# Altium footprint library Header.PcbLib: 45 footprints (part 2 of 3)
Each footprint in its own frame and in the unit in brackets; x right, y up, seen from the top. Pads: shape width x height; smd on the part's side, far side on the other; paste and mask are expansions set on the pad; w line width, h text height; cw(c..) or ccw(c..) is an arc to the next point about the centre after c.
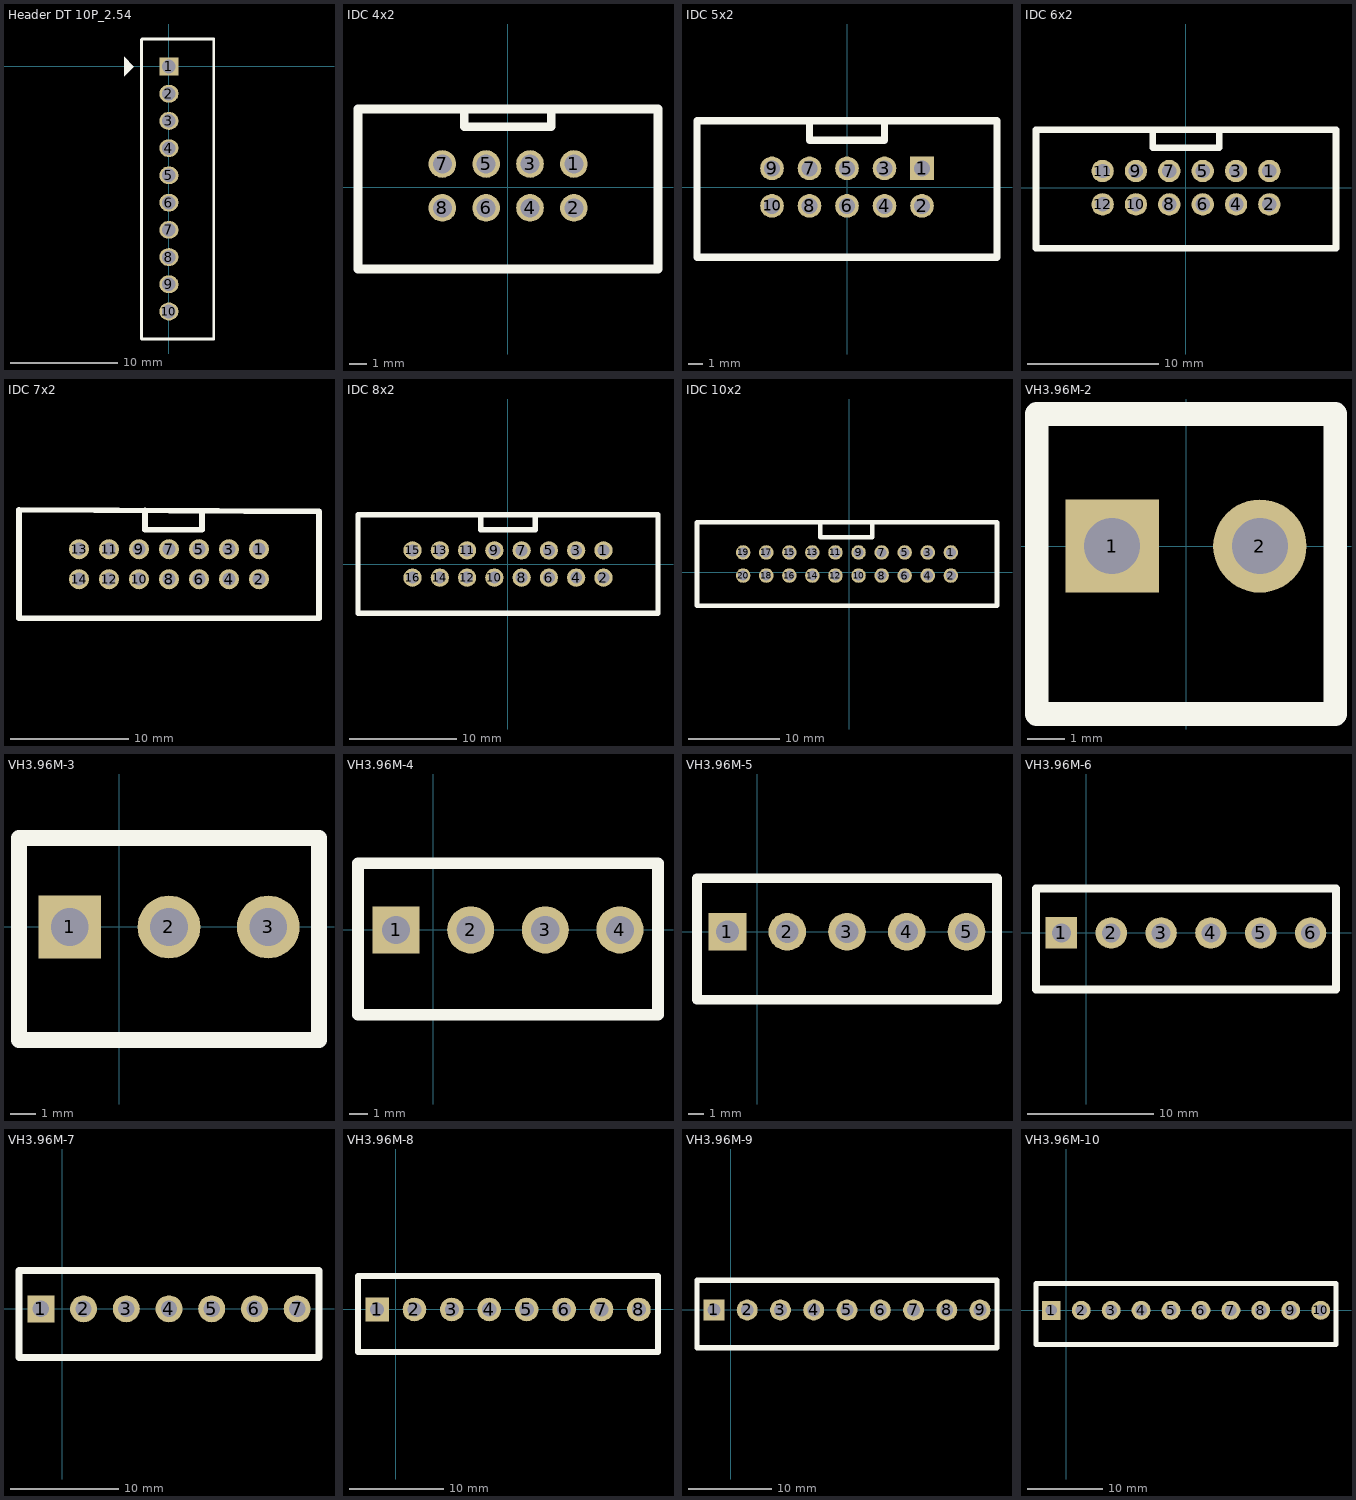
[diagram p1: the footprints below, top view; thin cyan lines are the x and y axes]

## Header DT 10P_2.54 [mil]
pads (10):
  rect 70x65 hole 50: 1(0,0)
  oval 70x65 hole 50: 2(0,-100) 3(0,-200) 4(0,-300) 5(0,-400) 6(0,-500) 7(0,-600) 8(0,-700) 9(0,-800) 10(0,-900)
Top Overlay:
  region: -164.5,35.5 -164.5,-35.5 -129.5,-0.5 -128.5,-0.5
  lines w10: -101,-1001 -101,99 -99,101 165,101 165,-1001 -101,-1001
3D body "31550.stp": height 550, standoff -115, extent -98,-1000 162,100

## IDC 4x2 [mm]
pads (8):
  round 1.6 hole 1.1: 1(3.84,1.34) 2(3.84,-1.2) 3(1.3,1.34) 4(1.3,-1.2) 5(-1.24,1.34) 6(-1.24,-1.2) 7(-3.78,1.34) 8(-3.78,-1.2)
Top Overlay:
  lines w0.5: -2.5,4.5 -2.5,3.5 2.53,3.5 2.53,4.5 2.6,4.5 ; -8.66,-4.745 -8.66,4.525 8.71,4.525 8.71,-4.745 -8.66,-4.745
3D body "10056844-108ALF--3DModel-STEP-533217.STEP": height 8.98, standoff -2.42, extent -8.66,-4.745 8.71,4.525

## IDC 5x2 [mm]
pads (10):
  rect 1.6x1.6 hole 1.1: 1(5.08,1.27)
  round 1.6 hole 1.1: 2(5.08,-1.27) 3(2.54,1.27) 4(2.54,-1.27) 5(0,1.27) 6(0,-1.27) 7(-2.54,1.27) 8(-2.54,-1.27) 9(-5.08,1.27) 10(-5.08,-1.27)
Top Overlay:
  lines w0.5: -2.54,4.483 -2.54,3.175 2.54,3.175 2.54,4.483 ; -10.16,-4.737 10.16,-4.737 10.16,4.483 -10.16,4.483 -10.16,-4.737
3D body "2-1761603-3.stp": height 10, standoff -1.81, extent -10.16,-4.737 10.16,4.483

## IDC 6x2 [mm]
pads (12):
  round 1.7 hole 1.1: 1(6.35,1.27) 2(6.35,-1.27) 3(3.81,1.27) 4(3.81,-1.27) 5(1.27,1.27) 6(1.27,-1.27) 7(-1.27,1.27) 8(-1.27,-1.27) 9(-3.81,1.27) 10(-3.81,-1.27) 11(-6.35,1.27) 12(-6.35,-1.27)
Top Overlay:
  lines w0.5: -2.54,4.4 -2.54,3.048 2.54,3.048 2.54,4.4 ; -11.42,-4.6 11.42,-4.6 11.42,4.4 -11.42,4.4 -11.42,-4.6
3D body "IDC 6x2 v2.step": height 9.1, standoff -2.8, extent -11.42,-4.6 11.42,4.4

## IDC 7x2 [mm]
pads (14):
  round 1.7 hole 1.1: 1(449.199,29.591) 2(449.199,27.051) 3(446.659,29.591) 4(446.659,27.051) 5(444.119,29.591) 6(444.119,27.051) 7(441.579,29.591) 8(441.579,27.051) 9(439.039,29.591) 10(439.039,27.051) 11(436.499,29.591) 12(436.499,27.051) 13(433.959,29.591) 14(433.959,27.051)
Top Overlay:
  lines w0.5: 439.547,32.866 439.547,31.242 444.373,31.242 444.373,32.847 ; 428.879,23.749 428.879,27.051 428.879,32.93 454.279,32.784 454.279,23.749 428.879,23.749

## IDC 8x2 [mm]
pads (16):
  round 1.7 hole 1.1: 1(8.89,1.27) 2(8.89,-1.27) 3(6.35,1.27) 4(6.35,-1.27) 5(3.81,1.27) 6(3.81,-1.27) 7(1.27,1.27) 8(1.27,-1.27) 9(-1.27,1.27) 10(-1.27,-1.27) 11(-3.81,1.27) 12(-3.81,-1.27) 13(-6.35,1.27) 14(-6.35,-1.27) 15(-8.89,1.27) 16(-8.89,-1.27)
Top Overlay:
  lines w0.5: -2.54,4.572 -2.54,3.175 2.54,3.175 2.54,4.572 ; -13.97,-4.572 -13.97,4.572 13.97,4.572 13.97,-4.572 -13.97,-4.572
3D body "IDC 8x2.stp": height 10, standoff -2.9, extent -13.97,-4.572 13.97,4.572

## IDC 10x2 [mm]
pads (20):
  round 1.6 hole 1.1: 1(11.176,2.159) 2(11.176,-0.381) 3(8.636,2.159) 4(8.636,-0.381) 5(6.096,2.159) 6(6.096,-0.381) 7(3.556,2.159) 8(3.556,-0.381) 9(1.016,2.159) 10(1.016,-0.381) 11(-1.524,2.159) 12(-1.524,-0.381) 13(-4.064,2.159) 14(-4.064,-0.381) 15(-6.604,2.159) 16(-6.604,-0.381) 17(-9.144,2.159) 18(-9.144,-0.381) 19(-11.684,2.159) 20(-11.684,-0.381)
Top Overlay:
  lines w0.5: -3.175,5.461 -3.175,3.81 2.54,3.81 2.54,5.461 ; -16.764,-3.683 -16.764,5.461 16.256,5.461 16.256,-3.683 -16.764,-3.683
3D body "IDC 10x2.stp": height 10, standoff -2.9, extent -16.764,-3.683 16.256,5.461

## VH3.96M-2 [mm]
pads (2):
  rect 2.5x2.5 hole 1.5: 1(-1.98,0)
  round 2.5 hole 1.5: 2(1.98,0)
Top Overlay:
  lines w0.635: 3.96,3.5 4,3.54 ; 4,3.54 4,-4.5 -4,-4.5 -4,3.54 4,3.54
3D body "VH3.96M-2.STEP": height 10.26, standoff -3.19, extent -4.08,-4.49 3.96,3.88

## VH3.96M-3 [mm]
pads (3):
  rect 2.5x2.5 hole 1.5: 1(-1.98,0)
  round 2.5 hole 1.5: 2(1.98,0) 3(5.94,0)
Top Overlay:
  lines w0.635: -4,-4.5 7.96,-4.5 7.96,3.54 -4,3.54 -4,-4.5
3D body "VH3.96M-3.STEP": height 10.26, standoff -3.19, extent -4.08,-4.49 7.92,3.88

## VH3.96M-4 [mm]
pads (4):
  rect 2.5x2.5 hole 1.5: 1(-1.98,0)
  round 2.5 hole 1.5: 2(1.98,0) 3(5.94,0) 4(9.9,0)
Top Overlay:
  lines w0.635: -4,-4.5 -4,3.54 11.92,3.54 11.92,-4.5 -4,-4.5
3D body "VH3.96M-4.STEP": height 10.26, standoff -3.19, extent -4.08,-4.49 11.88,3.88

## VH3.96M-5 [mm]
pads (5):
  rect 2.5x2.5 hole 1.5: 1(-1.98,0)
  round 2.5 hole 1.5: 2(1.98,0) 3(5.94,0) 4(9.9,0) 5(13.86,0)
Top Overlay:
  lines w0.635: -4,-4.5 15.88,-4.5 15.88,3.54 -4,3.54 -4,-4.5
3D body "VH3.96M-5.STEP": height 10.26, standoff -3.19, extent -4.08,-4.49 15.84,3.88

## VH3.96M-6 [mm]
pads (6):
  rect 2.5x2.5 hole 1.5: 1(-1.98,0)
  round 2.5 hole 1.5: 2(1.98,0) 3(5.94,0) 4(9.9,0) 5(13.86,0) 6(17.82,0)
Top Overlay:
  lines w0.635: -4,-4.5 19.84,-4.5 19.84,3.54 -4,3.54 -4,-4.5
3D body "VH3.96M-6.STEP": height 10.26, standoff -3.19, extent -4.08,-4.49 19.8,3.88

## VH3.96M-7 [mm]
pads (7):
  rect 2.5x2.5 hole 1.5: 1(-1.98,0)
  round 2.5 hole 1.5: 2(1.98,0) 3(5.94,0) 4(9.9,0) 5(13.86,0) 6(17.82,0) 7(21.78,0)
Top Overlay:
  lines w0.635: -4,-4.5 23.8,-4.5 23.8,3.54 -4,3.54 -4,-4.5
3D body "VH3.96M-7.STEP": height 10.26, standoff -3.19, extent -4.08,-4.49 23.76,3.88

## VH3.96M-8 [mm]
pads (8):
  rect 2.5x2.5 hole 1.5: 1(-1.98,0)
  round 2.5 hole 1.5: 2(1.98,0) 3(5.94,0) 4(9.9,0) 5(13.86,0) 6(17.82,0) 7(21.78,0) 8(25.74,0)
Top Overlay:
  lines w0.635: -4,-4.5 27.76,-4.5 27.76,3.54 -4,3.54 -4,-4.5
3D body "VH3.96M-8.STEP": height 10.26, standoff -3.19, extent -4.08,-4.49 27.72,3.88

## VH3.96M-9 [mm]
pads (9):
  rect 2.5x2.5 hole 1.5: 1(-1.98,0)
  round 2.5 hole 1.5: 2(1.98,0) 3(5.94,0) 4(9.9,0) 5(13.86,0) 6(17.82,0) 7(21.78,0) 8(25.74,0) 9(29.7,0)
Top Overlay:
  lines w0.635: -4,-4.5 31.72,-4.5 31.72,3.54 -4,3.54 -4,-4.5
3D body "VH3.96M-9.STEP": height 10.26, standoff -3.19, extent -4.08,-4.49 31.68,3.88

## VH3.96M-10 [mm]
pads (10):
  rect 2.5x2.5 hole 1.5: 1(-1.98,0)
  round 2.5 hole 1.5: 2(1.98,0) 3(5.94,0) 4(9.9,0) 5(13.86,0) 6(17.82,0) 7(21.78,0) 8(25.74,0) 9(29.7,0) 10(33.66,0)
Top Overlay:
  lines w0.635: -4,-4.5 -4,3.54 35.68,3.54 35.68,-4.5 -4,-4.5
3D body "VH3.96M-10.STEP": height 10.26, standoff -3.19, extent -4.08,-4.49 35.64,3.88